# Altium integrated library Inductor.IntLib: 3 symbols
Pins are listed as number, name and electrical type; pins without a type are passive.

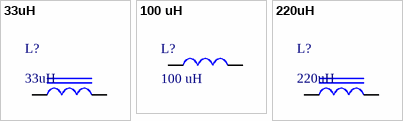
[diagram p0: symbols 33uH to 220uH]

## 33uH
designator L?
DR125
footprint DR125
pins: 1, 2

## 100 uH
designator L?
L1206
footprint L1206
pins: 1, 2

## 220uH
designator L?
INDUCTOR POWER 220uH 5.2X5.8X2.5mm 600mA SMD
footprint FPI0502-221M (SMD Power Inductor, 2-Leads, body 5.8x5.2mm)
pins: 1, 2